# EAGLE library part LETATWORKII (library andereBauteile)
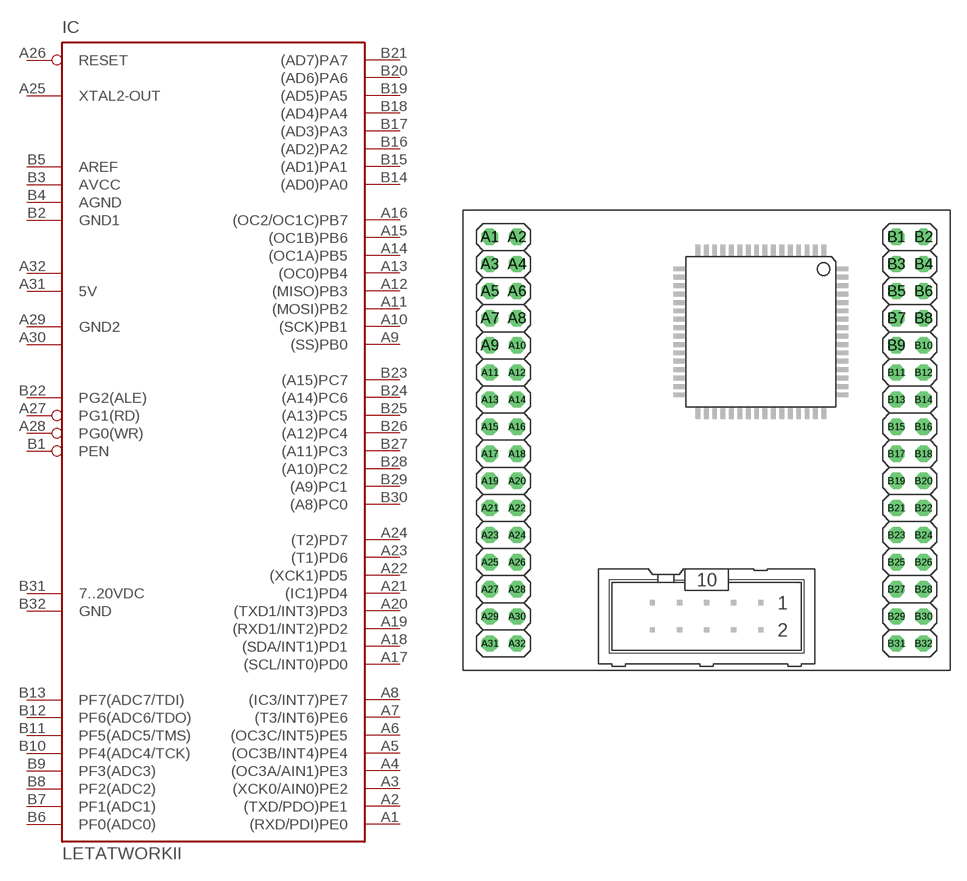
[diagram p11: symbol with the pads of LETATWORKII; footprint LETATWORKII]

Designator prefix IC

## LETATWORKII  [LETATWORKII]
A1  (RXD/PDI)PE0
A2  (TXD/PDO)PE1
A3  (XCK0/AIN0)PE2
A4  (OC3A/AIN1)PE3
A5  (OC3B/INT4)PE4
A6  (OC3C/INT5)PE5
A7  (T3/INT6)PE6
A8  (IC3/INT7)PE7
A9  (SS)PB0
A10  (SCK)PB1
A11  (MOSI)PB2
A12  (MISO)PB3
A13  (OC0)PB4
A14  (OC1A)PB5
A15  (OC1B)PB6
A16  (OC2/OC1C)PB7
A17  (SCL/INT0)PD0
A18  (SDA/INT1)PD1
A19  (RXD1/INT2)PD2
A20  (TXD1/INT3)PD3
A21  (IC1)PD4
A22  (XCK1)PD5
A23  (T1)PD6
A24  (T2)PD7
A25  XTAL2-OUT  out
A26  RESET  in
A27  PG1(RD)
A28  PG0(WR)
A29  GND2  pwr
A30  GND3  pwr
A31  5V  pwr
A32  5V1  pwr
B1  PEN  in
B2  GND1  pwr
B3  AVCC
B4  AGND
B5  AREF
B6  PF0(ADC0)  in
B7  PF1(ADC1)  in
B8  PF2(ADC2)  in
B9  PF3(ADC3)  in
B10  PF4(ADC4/TCK)  in
B11  PF5(ADC5/TMS)  in
B12  PF6(ADC6/TDO)  in
B13  PF7(ADC7/TDI)  in
B14  (AD0)PA0
B15  (AD1)PA1
B16  (AD2)PA2
B17  (AD3)PA3
B18  (AD4)PA4
B19  (AD5)PA5
B20  (AD6)PA6
B21  (AD7)PA7
B22  PG2(ALE)
B23  (A15)PC7  out
B24  (A14)PC6  out
B25  (A13)PC5  out
B26  (A12)PC4  out
B27  (A11)PC3  out
B28  (A10)PC2  out
B29  (A9)PC1  out
B30  (A8)PC0  out
B31  7..20VDC  pwr
B32  GND  pwr

## Footprint LETATWORKII (pad centres in mm)
drill 1.016 octagon: A1 -20.32,19.05; A2 -17.78,19.05; A3 -20.32,16.51; A4 -17.78,16.51; A5 -20.32,13.97; A6 -17.78,13.97; A7 -20.32,11.43; A8 -17.78,11.43; A9 -20.32,8.89; A10 -17.78,8.89; A11 -20.32,6.35; A12 -17.78,6.35; A13 -20.32,3.81; A14 -17.78,3.81; A15 -20.32,1.27; A16 -17.78,1.27; A17 -20.32,-1.27; A18 -17.78,-1.27; A19 -20.32,-3.81; A20 -17.78,-3.81; A21 -20.32,-6.35; A22 -17.78,-6.35; A23 -20.32,-8.89; A24 -17.78,-8.89; A25 -20.32,-11.43; A26 -17.78,-11.43; A27 -20.32,-13.97; A28 -17.78,-13.97; A29 -20.32,-16.51; A30 -17.78,-16.51; A31 -20.32,-19.05; A32 -17.78,-19.05; B1 17.78,19.05; B2 20.32,19.05; B3 17.78,16.51; B4 20.32,16.51; B5 17.78,13.97; B6 20.32,13.97; B7 17.78,11.43; B8 20.32,11.43; B9 17.78,8.89; B10 20.32,8.89; B11 17.78,6.35; B12 20.32,6.35; B13 17.78,3.81; B14 20.32,3.81; B15 17.78,1.27; B16 20.32,1.27; B17 17.78,-1.27; B18 20.32,-1.27; B19 17.78,-3.81; B20 20.32,-3.81; B21 17.78,-6.35; B22 20.32,-6.35; B23 17.78,-8.89; B24 20.32,-8.89; B25 17.78,-11.43; B26 20.32,-11.43; B27 17.78,-13.97; B28 20.32,-13.97; B29 17.78,-16.51; B30 20.32,-16.51; B31 17.78,-19.05; B32 20.32,-19.05